# Altium footprint library TJA1044T.PcbLib: 1 footprints
Each footprint in its own frame and in the unit in brackets; x right, y up, seen from the top. Pads: shape width x height; smd on the part's side, far side on the other; paste and mask are expansions set on the pad; w line width, h text height; cw(c..) or ccw(c..) is an arc to the next point about the centre after c.
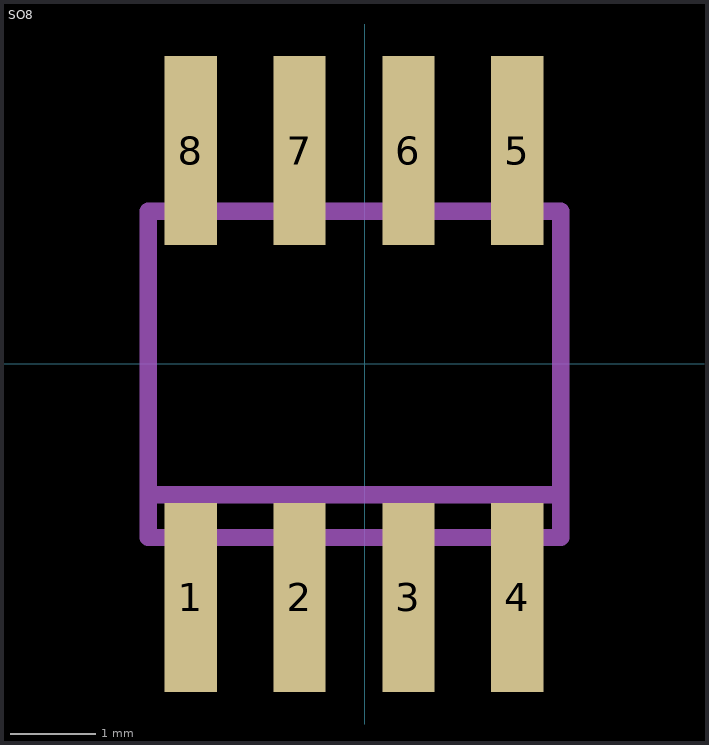
[diagram p0: the footprint, top view; thin cyan lines are the x and y axes]

## SO8 [mil]
pads (8):
  rect 24x87 smd: 1(-80,-107.36) 2(-30,-107.36) 3(20,-107.36) 4(70,-107.36) 5(70,98) 6(20,98) 7(-30,98) 8(-80,98)
Mechanical 16:
  rectangle: -89.65,-127.05 -70.35,-83.74
  rectangle: -39.65,-127.05 -20.35,-83.74
  rectangle: 11,-127.05 30,-83.74
  rectangle: 61,-127.05 80,-83.74
  rectangle: 61,74 80,118
  rectangle: 11,74 30,118
  rectangle: -39.65,74 -20.35,118
  rectangle: -89.65,74 -70.35,118
  lines w8: -99.49,-60.12 -99.49,-79.8 90,-79.8 90,-60.12 ; -99.49,-60.12 -99.49,70 90,70 90,-60.12 ; -99.49,-60.12 90,-60.12